# Altium schematic symbol library LT8494.SchLib: 2 symbols
Pins are listed as number, name and electrical type; pins without a type are passive.

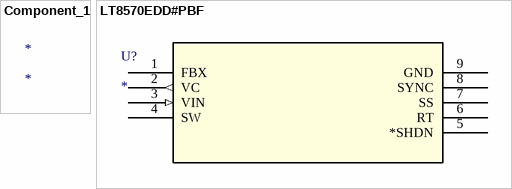
[diagram p0: symbols Component_1 to LT8570EDD#PBF]

## Component_1
designator *

## LT8570EDD#PBF
designator U?
Imported; Manufacturer_Part_Number: lt8570edd#pbf; Vendor: Linear Technology; Value: Value; Type: Type; RefDes: RefDes
footprint DFN-8_DD
pins: 1 FBX, 2 VC (out), 3 VIN (in), 4 SW, 5 *SHDN, 6 RT, 7 SS, 8 SYNC, 9 GND (power)